# EAGLE library part WE-TVS_824014 (library Wurth_Elektronik_Passive_rev15e)
TVS Diode Super Speed Series Characteristics Operating temperature: –55 ºC to +85 °C for 824 014 x; –40 ºC to +85 °C for 824 016 46 Low clamping voltage Very low capacitance Rail to Rail protection Epoxy flame resistant UL94 V-0 RoHS, REACH and free of halogens Applications Super Speed data lines HDMI 1.3/1.4, DVI DisplayPort USB 3.0 SuperSpeed SATA GBit LAN ESD protection in accordance with EN 61000-4-2 – 8 kV contact discharge – 15 kV air discharge <http://katalog.we-online.de/media/images/eisos/VarTVS_highspeed_pf2.jpg.jpg> Details see: http://katalog.we-online.de/en/pbs/WE-TVS_High_Speed/24014? Updated by Dan Xu 2014-07-11 2014 (C) Wurth Elektronik
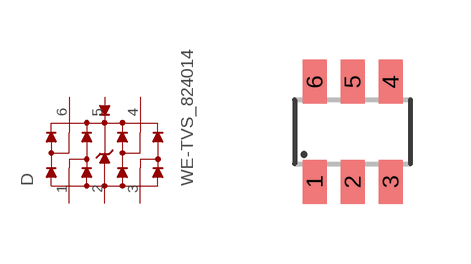
[diagram p41: symbol with the pads of WE-TVS_SOT23-6L; footprint WE-TVS_SOT23-6L]

Designator prefix D

## WE-TVS_824014  [WE-TVS_SOT23-6L]
1  1  pas
2  GND  pwr
3  2  pas
4  3  pas
5  VDD  pwr
6  4  pas

## Footprint WE-TVS_SOT23-6L (pad centres in mm)
TVS Diode Array WE-TVS
smd 0.6 x 1.1: 1 -0.95,-1.25; 2 0,-1.25; 3 0.95,-1.25; 4 0.95,1.25; 5 0,1.25; 6 -0.95,1.25